# Altium footprint library Earphone.PcbLib: 37 footprints (part 3 of 3)
Each footprint in its own frame and in the unit in brackets; x right, y up, seen from the top. Pads: shape width x height; smd on the part's side, far side on the other; paste and mask are expansions set on the pad; w line width, h text height; cw(c..) or ccw(c..) is an arc to the next point about the centre after c.
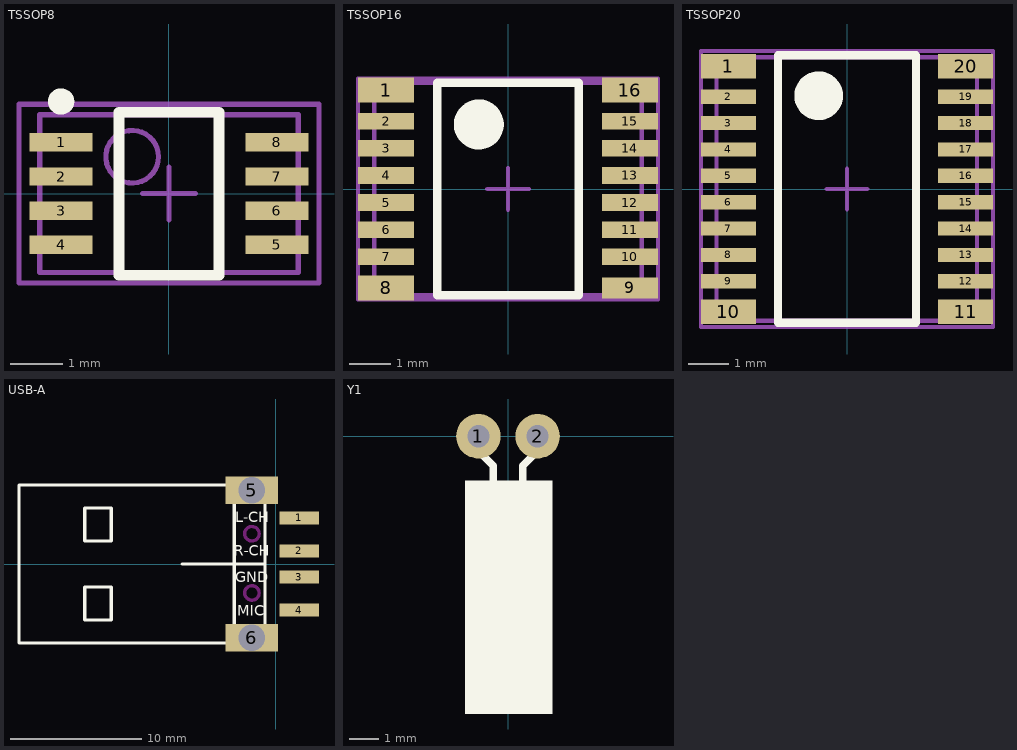
[diagram p2: the footprints below, top view; thin cyan lines are the x and y axes]

## TSSOP8 [mm]
pads (8):
  rect 1.2x0.35 smd: 1(-2.05,0.975) 2(-2.05,0.325) 3(-2.05,-0.325) 4(-2.05,-0.975) 5(2.05,-0.975) 6(2.05,-0.325) 7(2.05,0.325) 8(2.05,0.975)
Top Overlay:
  circle w0.25: c-2.05,1.75 r0.125
  lines w0.2: -0.95,-1.55 0.95,-1.55 0.95,1.55 -0.95,1.55 -0.95,-1.55
Mechanical 13:
  circle w0.1: c-0.7,0.7 r0.5
  lines w0.1: -2.458,-1.5 2.458,-1.5 2.458,1.5 -2.458,1.5 -2.458,-1.5
Mechanical 15:
  lines w0.1: -0.5,0 0.5,0 ; 0,-0.5 0,0.5 ; -2.85,-1.7 2.85,-1.7 2.85,1.7 -2.85,1.7 -2.85,-1.7
3D body: height 0.98, standoff 0.02, extent -2.458,-1.5 2.459,1.5

## TSSOP16 [mm]
pads (16):
  rect 1.35x0.6 smd: 1(-2.925,2.375) 8(-2.925,-2.375) 16(2.925,2.375)
  rect 1.35x0.4 smd: 2(-2.925,1.625) 3(-2.925,0.975) 4(-2.925,0.325) 5(-2.925,-0.325) 6(-2.925,-0.975) 7(-2.925,-1.625) 10(2.925,-1.625) 11(2.925,-0.975) 12(2.925,-0.325) 13(2.925,0.325) 14(2.925,0.975) 15(2.925,1.625)
  rect 1.35x0.5 smd: 9(2.925,-2.375)
Top Overlay:
  circle w0.6: c-0.7,1.55 r0.3
  lines w0.2: -1.7,-2.55 1.7,-2.55 1.7,2.55 -1.7,2.55 -1.7,-2.55
Mechanical 13:
  lines w0.1: -3.21,-2.55 3.21,-2.55 3.21,2.55 -3.21,2.55 -3.21,-2.55
Mechanical 15:
  lines w0.1: -0.5,0 0.5,0 ; 0,-0.5 0,0.5 ; -3.6,-2.65 3.6,-2.65 3.6,2.65 -3.6,2.65 -3.6,-2.65
3D body: height 1, standoff 0, extent -3.21,-2.55 3.21,2.55

## TSSOP20 [mm]
pads (20):
  rect 1.35x0.6 smd: 1(-2.925,3.025) 10(-2.925,-3.025) 11(2.925,-3.025) 20(2.925,3.025)
  rect 1.35x0.35 smd: 2(-2.925,2.275) 3(-2.925,1.625) 4(-2.925,0.975) 5(-2.925,0.325) 6(-2.925,-0.325) 7(-2.925,-0.975) 8(-2.925,-1.625) 9(-2.925,-2.275) 12(2.925,-2.275) 13(2.925,-1.625) 14(2.925,-0.975) 15(2.925,-0.325) 16(2.925,0.325) 17(2.925,0.975) 18(2.925,1.625) 19(2.925,2.275)
Top Overlay:
  circle w0.6: c-0.7,2.3 r0.3
  lines w0.2: -1.7,-3.3 -1.7,3.3 1.7,3.3 1.7,-3.3 -1.7,-3.3
Mechanical 13:
  lines w0.1: -3.215,-3.25 3.206,-3.25 3.206,3.25 -3.215,3.25 -3.215,-3.25
Mechanical 15:
  lines w0.1: -0.5,0 0.5,0 ; 0,-0.5 0,0.5 ; -3.6,-3.4 -3.6,3.4 3.6,3.4 3.6,-3.4 -3.6,-3.4
3D body: height 1, standoff 0, extent -3.215,-3.25 3.206,3.25

## USB-A [mm]
pads (6):
  rect 3x1 smd: 1(1.8,3.5) 2(1.8,1) 3(1.8,-1) 4(1.8,-3.5)
  rect 4x2.1 hole 2: 5(-1.8,5.6) 6(-1.8,-5.6)
Top Overlay:
  lines w0.254: -7.1,0 -0.8,0 ; -3.15,-6 -3.15,6 ; -19.5,-6 -19.5,6 -0.8,6 -0.8,-6 -19.5,-6 ; -14.5,-4.25 -12.5,-4.25 -12.5,-1.75 -14.5,-1.75 -14.5,-4.25 ; -14.5,1.75 -14.5,4.25 -12.5,4.25 -12.5,1.75 -14.5,1.75
  text "GND" at -3.048,-1.397 h0.8
  text "R-CH" at -3.175,0.635 h0.8
  text "MIC" at -2.921,-3.937 h0.8
  text "L-CH" at -3.048,3.175 h0.8
Bottom Overlay:
  lines w0.254: -3.15,-6 -3.15,6 ; -19.5,-6 -19.5,6 -0.8,6 -0.8,-6 -19.5,-6
Keep-Out Layer:
  circle w0.254: c-1.8,-2.2 r0.55
  circle w0.254: c-1.8,2.3 r0.55
Mechanical 1:
  lines w0.254: -3.05,-6.1 -0.55,-6.1 -0.55,-5.1 -3.05,-5.1 -3.05,-6.1 ; -3.05,5.1 -0.55,5.1 -0.55,6.1 -3.05,6.1 -3.05,5.1
3D body: height 3.1, standoff -2.87, extent -19.433,-6.348 0.592,6.348

## Y1 [mil]
pads (2):
  round 60 hole 30: 1(-40,0) 2(40,0)
Top Overlay:
  rectangle: -58.01,-375 59.99,-60
  lines w10: -40,-20 -20,-40 -20,-60 ; 20,-60 20,-40 40,-20